# EAGLE library part STM32F407I (library barthess)
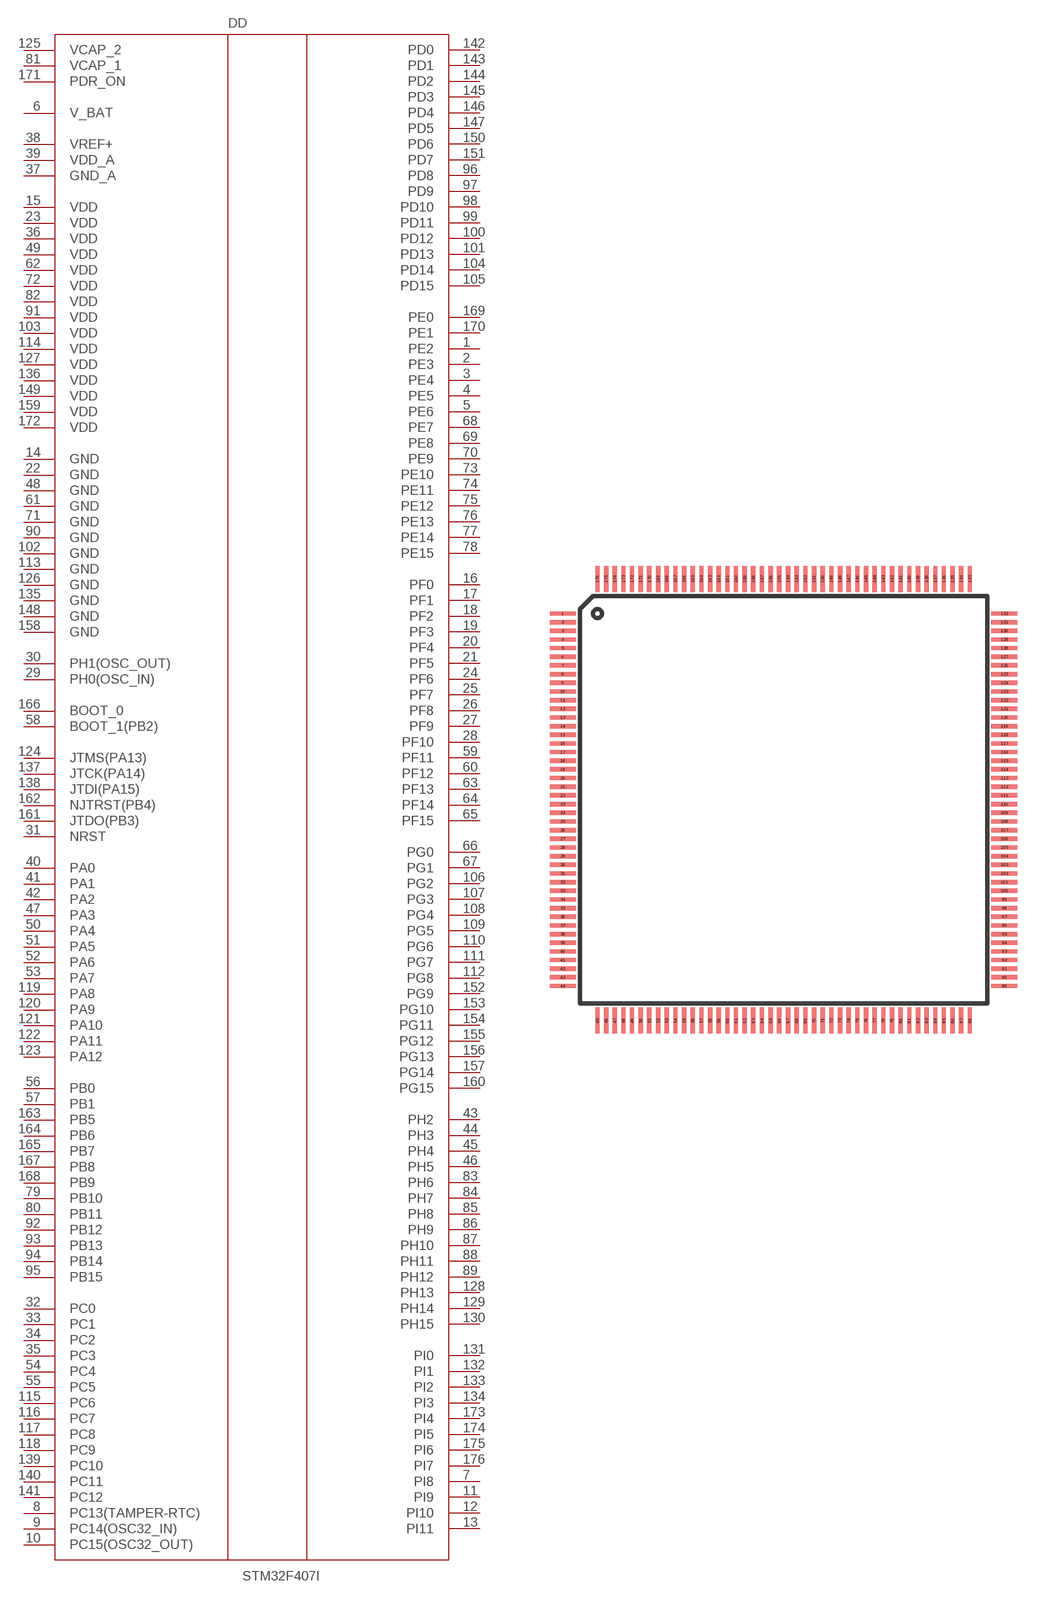
[diagram p35: symbol with the pads of TQFP176(1.5X0.25); footprint TQFP176(1.5X0.25)]

Designator prefix DD

## STM32F407I  [TQFP176(1.5X0.25)]
1  PE2
2  PE3
3  PE4
4  PE5
5  PE6
6  V_BAT  pwr
7  PI8
8  PC13(TAMPER-RTC)
9  PC14(OSC32_IN)
10  PC15(OSC32_OUT)
11  PI9
12  PI10
13  PI11
14  GND  pwr
15  VDD  pwr
16  PF0
17  PF1
18  PF2
19  PF3
20  PF4
21  PF5
22  GND  pwr
23  VDD  pwr
24  PF6
25  PF7
26  PF8
27  PF9
28  PF10
29  PH0(OSC_IN)
30  PH1(OSC_OUT)
31  NRST
32  PC0
33  PC1
34  PC2
35  PC3
36  VDD  pwr
37  GND_A  pwr
38  VREF+  pwr
39  VDD_A  pwr
40  PA0
41  PA1
42  PA2
43  PH2
44  PH3
45  PH4
46  PH5
47  PA3
48  GND  pwr
49  VDD  pwr
50  PA4
51  PA5
52  PA6
53  PA7
54  PC4
55  PC5
56  PB0
57  PB1
58  BOOT_1(PB2)
59  PF11
60  PF12
61  GND  pwr
62  VDD  pwr
63  PF13
64  PF14
65  PF15
66  PG0
67  PG1
68  PE7
69  PE8
70  PE9
71  GND  pwr
72  VDD  pwr
73  PE10
74  PE11
75  PE12
76  PE13
77  PE14
78  PE15
79  PB10
80  PB11
81  VCAP_1  pwr
82  VDD  pwr
83  PH6
84  PH7
85  PH8
86  PH9
87  PH10
88  PH11
89  PH12
90  GND  pwr
91  VDD  pwr
92  PB12
93  PB13
94  PB14
95  PB15
96  PD8
97  PD9
98  PD10
99  PD11
100  PD12
101  PD13
102  GND  pwr
103  VDD  pwr
104  PD14
105  PD15
106  PG2
107  PG3
108  PG4
109  PG5
110  PG6
111  PG7
112  PG8
113  GND  pwr
114  VDD  pwr
115  PC6
116  PC7
117  PC8
118  PC9
119  PA8
120  PA9
121  PA10
122  PA11
123  PA12
124  JTMS(PA13)
125  VCAP_2  pwr
126  GND  pwr
127  VDD  pwr
128  PH13
129  PH14
130  PH15
131  PI0
132  PI1
133  PI2
134  PI3
135  GND  pwr
136  VDD  pwr
137  JTCK(PA14)
138  JTDI(PA15)
139  PC10
140  PC11
141  PC12
142  PD0
143  PD1
144  PD2
145  PD3
146  PD4
147  PD5
148  GND  pwr
149  VDD  pwr
150  PD6
151  PD7
152  PG9
153  PG10
154  PG11
155  PG12
156  PG13
157  PG14
158  GND  pwr
159  VDD  pwr
160  PG15
161  JTDO(PB3)
162  NJTRST(PB4)
163  PB5
164  PB6
165  PB7
166  BOOT_0  in
167  PB8
168  PB9
169  PE0
170  PE1
171  PDR_ON  pwr
172  VDD  pwr
173  PI4
174  PI5
175  PI6
176  PI7

## Footprint TQFP176(1.5X0.25) (pad centres in mm)
smd 1.5 x 0.25: 1 -12,10; 2 -12,9.5; 3 -12,9; 4 -12,8.5; 5 -12,8; 6 -12,7.5; 7 -12,7; 8 -12,6.5; 9 -12,6; 10 -12,5.5; 11 -12,5; 12 -12,4.5; 13 -12,4; 14 -12,3.5; 15 -12,3; 16 -12,2.5; 17 -12,2; 18 -12,1.5; 19 -12,1; 20 -12,0.5; 21 -12,0; 22 -12,-0.5; 23 -12,-1; 24 -12,-1.5; 25 -12,-2; 26 -12,-2.5; 27 -12,-3; 28 -12,-3.5; 29 -12,-4; 30 -12,-4.5; 31 -12,-5; 32 -12,-5.5; 33 -12,-6; 34 -12,-6.5; 35 -12,-7; 36 -12,-7.5; 37 -12,-8; 38 -12,-8.5; 39 -12,-9; 40 -12,-9.5; 41 -12,-10; 42 -12,-10.5; 43 -12,-11; 44 -12,-11.5; 89 13.5,-11.5; 90 13.5,-11; 91 13.5,-10.5; 92 13.5,-10; 93 13.5,-9.5; 94 13.5,-9; 95 13.5,-8.5; 96 13.5,-8; 97 13.5,-7.5; 98 13.5,-7; 99 13.5,-6.5; 100 13.5,-6; 101 13.5,-5.5; 102 13.5,-5; 103 13.5,-4.5; 104 13.5,-4; 105 13.5,-3.5; 106 13.5,-3; 107 13.5,-2.5; 108 13.5,-2; 109 13.5,-1.5; 110 13.5,-1; 111 13.5,-0.5; 112 13.5,0; 113 13.5,0.5; 114 13.5,1; 115 13.5,1.5; 116 13.5,2; 117 13.5,2.5; 118 13.5,3; 119 13.5,3.5; 120 13.5,4; 121 13.5,4.5; 122 13.5,5; 123 13.5,5.5; 124 13.5,6; 125 13.5,6.5; 126 13.5,7; 127 13.5,7.5; 128 13.5,8; 129 13.5,8.5; 130 13.5,9; 131 13.5,9.5; 132 13.5,10
smd 0.25 x 1.5: 45 -10,-13.5; 46 -9.5,-13.5; 47 -9,-13.5; 48 -8.5,-13.5; 49 -8,-13.5; 50 -7.5,-13.5; 51 -7,-13.5; 52 -6.5,-13.5; 53 -6,-13.5; 54 -5.5,-13.5; 55 -5,-13.5; 56 -4.5,-13.5; 57 -4,-13.5; 58 -3.5,-13.5; 59 -3,-13.5; 60 -2.5,-13.5; 61 -2,-13.5; 62 -1.5,-13.5; 63 -1,-13.5; 64 -0.5,-13.5; 65 0,-13.5; 66 0.5,-13.5; 67 1,-13.5; 68 1.5,-13.5; 69 2,-13.5; 70 2.5,-13.5; 71 3,-13.5; 72 3.5,-13.5; 73 4,-13.5; 74 4.5,-13.5; 75 5,-13.5; 76 5.5,-13.5; 77 6,-13.5; 78 6.5,-13.5; 79 7,-13.5; 80 7.5,-13.5; 81 8,-13.5; 82 8.5,-13.5; 83 9,-13.5; 84 9.5,-13.5; 85 10,-13.5; 86 10.5,-13.5; 87 11,-13.5; 88 11.5,-13.5; 133 11.5,12; 134 11,12; 135 10.5,12; 136 10,12; 137 9.5,12; 138 9,12; 139 8.5,12; 140 8,12; 141 7.5,12; 142 7,12; 143 6.5,12; 144 6,12; 145 5.5,12; 146 5,12; 147 4.5,12; 148 4,12; 149 3.5,12; 150 3,12; 151 2.5,12; 152 2,12; 153 1.5,12; 154 1,12; 155 0.5,12; 156 0,12; 157 -0.5,12; 158 -1,12; 159 -1.5,12; 160 -2,12; 161 -2.5,12; 162 -3,12; 163 -3.5,12; 164 -4,12; 165 -4.5,12; 166 -5,12; 167 -5.5,12; 168 -6,12; 169 -6.5,12; 170 -7,12; 171 -7.5,12; 172 -8,12; 173 -8.5,12; 174 -9,12; 175 -9.5,12; 176 -10,12